# Altium schematic symbol library SYNCBOX_V3I1_1.SCHLIB: 99 symbols (part 1 of 3)
Pins are listed as number, name and electrical type; pins without a type are passive.

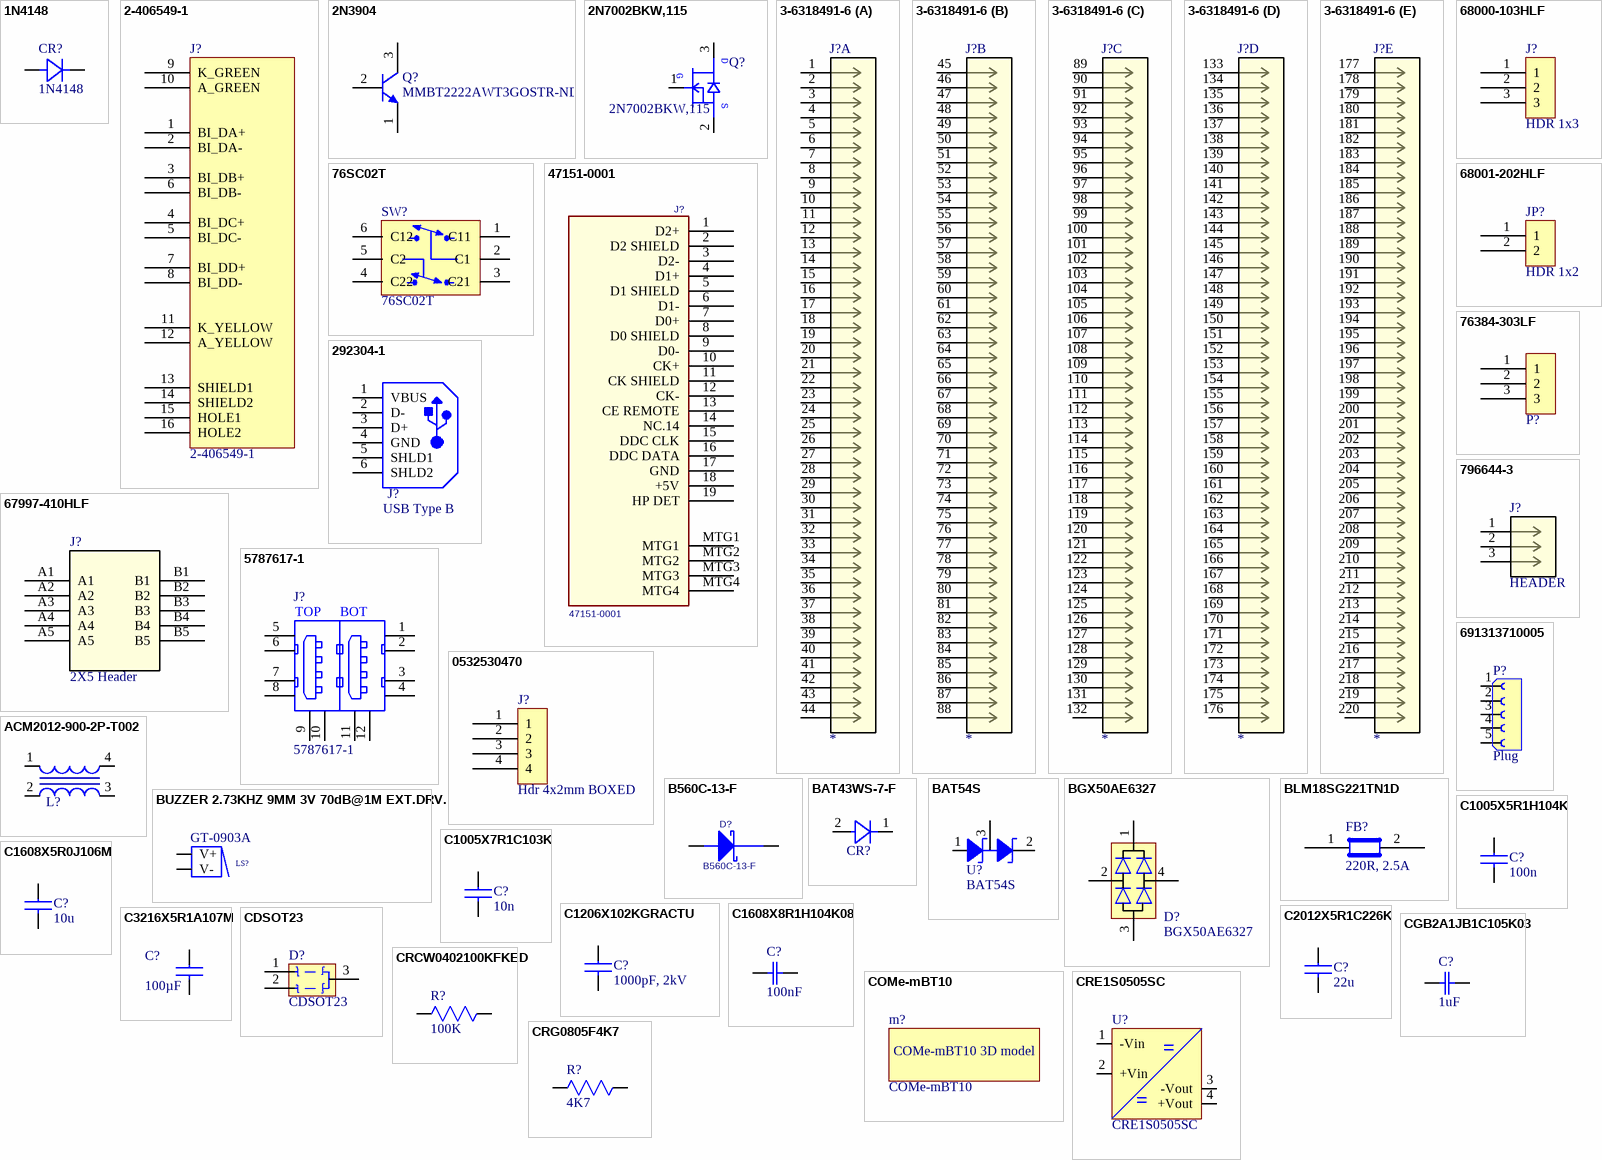
[diagram p0: symbols 1N4148 to CRG0805F4K7]

## 1N4148
designator CR?
DIODE GEN PURP 100V 150MA SOD123; Manufacturer 1: Micro Commercial Co; Manufacturer Part Number 1: 1N4148W-TP; Vendor: Nexperia; Type: DEV; C: Copyright (C) 2015 Accelerated Designs. All rights reserved; .Checked PCB: CHK; Diode Type: Standard; Speed: Small Signal =< 200mA (Io), Any Speed; Capacitance @ Vr, F: 2pF @ 0V, 1MHz; Manufacturer_Part_Number: 1N4148; Copyright: Copyright (C) 2016 Accelerated Designs. All rights reserved; RefDes: RefDes; Value: Value; .Checked SCH: CHK; Supplier 1: Digi-Key; Supplier Part Number 1: 1N4148WTPMSCT-ND; RoHS: RoHS Compliant; Description 1: DIODE GEN PURP 100V 150MA SOD123; Category: Discrete Semiconductor Products; Stock 1: 1984430; Pricing 1: 1=0.14, 10=0.131, 100=0.0856, 500=0.04186, 1000=0.02854 (USD); Packaging: Cut Tape (CT); Part Status: Active; Current - Average Rectified (Io): 150mA; Mounting Type: Surface Mount; Package / Case: SOD-123; Supplier Device Package: SOD-123; Operating Temperature - Junction: -65°C ~ 150°C; Base Part Number: 1N4148W; ComponentLink1URL: http://www.mccsemi.com/up_pdf/1N4148W(SOD123).pdf; ComponentLink1Description: http://www.mccsemi.com/up_pdf/1N4148W(SOD123).pdf
footprint SOD123-DIOD
pins: 1, 2

## 2-406549-1
designator J?
CONN MOD JACK 8POS R/A G-Y PCB; Manufacturer: Tyco; .Checked PCB: CHK; Number of Positions: 8p8c (RJ45, Ethernet); Number of Ports: 1; Shielding: Shielded, EMI Finger; Ratings: Cat5; LED Color: Yellow - Green; Tab Direction: Up; .Checked SCH: CHK; Category: Connectors, Interconnects; Connector Type: Jack; Manufacturer Part Number: 2-406549-1; Price 1k [$]: 1.73278; Supplier: Digikey; Supplier Part Number: A97715-ND; Value: 2-406549-1; Supplier 1: Digi-Key; Supplier Part Number 1: A97715-ND; RoHS: RoHS Compliant; Stock 1: 9021; Pricing 1: 1=3.42 (USD); Number of Positions/Contacts: 8p8c (RJ45, Ethernet); Number of Rows: 1; Mounting Type: Through Hole; Orientation: 90° Angle (Right); Termination: Solder; Features: Board Lock; Packaging: Tray; Housing Material: Thermoplastic; Contact Material: Phosphor Bronze; Contact Finish: Gold; Operating Temperature: -40°C ~ 85°C; ComponentLink1URL: http://documents.tycoelectronics.com/commerce/DocumentDelivery/DDEController?Action=srchrtrv&DocNm=406549&DocType=CD&DocLang=EN; ComponentLink1Description: http://documents.tycoelectronics.com/commerce/DocumentDelivery/DDEController?Action=srchrtrv&DocNm=406549&DocType=CD&DocLang=EN
footprint RJ45LED
pins: 1 BI_DA+, 2 BI_DA-, 3 BI_DB+, 4 BI_DC+, 5 BI_DC-, 6 BI_DB-, 7 BI_DD+, 8 BI_DD-, 9 K_GREEN, 10 A_GREEN, 11 K_YELLOW, 12 A_YELLOW, 13 SHIELD1, 14 SHIELD2, 15 HOLE1, 16 HOLE2

## 2N3904
designator Q?, comment MMBT2222AWT3GOSTR-ND
NPN General Purpose Amplifier; Manufacturer 1: ON Semiconductor; .Checked PCB: CHK; Description 1: TRANS NPN 40V 0.6A SC70-3; Vce Saturation (Max) @ Ib, Ic: 1V @ 50mA, 500mA; DC Current Gain (hFE) (Min) @ Ic, Vce: 100 @ 150mA, 10V; Frequency - Transition: 300MHz; Published: 8-Jun-2000; LatestRevisionDate: 15-Jan-2003; LatestRevisionNote: PCB Footprint 'BCY-W3/D4.7' replaced; DatasheetVersion: 1997; PackageVersion: Sep-1998; PackageReference: TO-92A; Publisher: Altium Limited; ComponentLink1Description: Manufacturer Link; ComponentLink1URL: http://www.fairchildsemi.com/; ComponentLink2Description: Datasheet; ComponentLink2URL: http://www.fairchildsemi.com/ds/2N%2F2N3904.pdf; PackageDescription: TO, Flat Index; 3 In-Line, Axial Leads; Body Dia. 4.5mm; Leads 0.51 x 0.48 mm (max); .Checked SCH: CHK; Supplier 1: Digi-Key; Supplier Part Number 1: MMBT2222AWT3GOSCT-ND; Manufacturer Part Number 1: MMBT2222AWT3G; RoHS: RoHS Compliant; Category: Discrete Semiconductor Products; Stock 1: 19990; Pricing 1: 1=0.14, 10=0.126, 100=0.0688, 500=0.04236, 1000=0.02889 (USD); Packaging: Cut Tape (CT); Part Status: Active; Transistor Type: NPN; Current - Collector Cutoff (Max): -; Operating Temperature: -55°C ~ 150°C (TJ); Mounting Type: Surface Mount; Package / Case: SC-70, SOT-323; Supplier Device Package: SC-70-3 (SOT323); Base Part Number: MMBT2222A; ComponentLink3URL: http://www.onsemi.com/pub/Collateral/MMBT2222AWT1-D.PDF; ComponentLink3Description: http://www.onsemi.com/pub/Collateral/MMBT2222AWT1-D.PDF
footprint SC70_SOT323
pins: 1 E, 2 B, 3 C

## 2N7002BKW,115
designator Q?
MOSFET N-CH 60V 310MA SOT323; Manufacturer: NXP Semiconductors; FET Type: MOSFET N-Channel, Metal Oxide; FET Feature: Logic Level Gate; Rds On (Max) @ Id, Vgs: 1.6 Ohm @ 500mA, 10V; Vgs(th) (Max) @ Id: 2.1V @ 250µA; Gate Charge (Qg) @ Vgs: 0.6nC @ 4.5V; Input Capacitance (Ciss) @ Vds: 50pF @ 10V; Power - Max: 275mW; .Checked PCB: CHK; Supplier 1: Digi-Key; Supplier Part Number 1: 568-5980-1-ND; Manufacturer Part Number: 2N7002BKW,115; RoHS: RoHS Compliant; Category: Discrete Semiconductor Products; Stock 1: 15666; Pricing 1: 1=0.39, 10=0.354, 25=0.2548, 100=0.1983, 250=0.12456, 500=0.10616, 1000=0.07233 (USD); Drain to Source Voltage (Vdss): 60V; Current - Continuous Drain (Id) @ 25° C: 310mA; Mounting Type: Surface Mount; Package / Case: SC-70, SOT-323; Supplier Device Package: SC-70; Packaging: Cut Tape (CT); ComponentLink1URL: http://www.nxp.com/documents/data_sheet/2N7002BKW.pdf; ComponentLink1Description: http://www.nxp.com/documents/data_sheet/2N7002BKW.pdf; .Checked SCH: CHK
footprint SC70_SOT323
pins: 1 GATE, 2 SOURCE, 3 DRAIN
text: D; G; S

## 3-6318491-6
designator J?
CONN PLUG 220POS 0.5MM DUAL SMT; Manufacturer_Part_Number: 3-6318491-6; Manufacturer 1: TE Connectivity AMP Connectors; Vendor: TE Connectivity; Built_By: EMA_UL_Team; ROWS/CONFIG: 2; PITCH(MM): 0.5; POSITIONS: 220; C: Copyright (C) 2015 Accelerated Designs. All rights reserved; .Checked PCB: CHK; Connector Type: Plug, Outer Shroud Contacts; Pitch: 0.020" (0.50mm); Mated Stacking Heights: 5mm, 8mm; Copyright: Copyright (C) 2016 Accelerated Designs. All rights reserved; TE_Part_Number: 3-6318491-6; PRODUCT: Connector; Type: DEV; RefDes: RefDes; Value: Value; .Checked SCH: CHK; Supplier 1: Digi-Key; Supplier Part Number 1: A107335-ND; Manufacturer Part Number 1: 3-6318491-6; RoHS: RoHS Compliant; Description 1: CONN PLUG 220POS 0.5MM DUAL SMT; Category: Connectors, Interconnects; Stock 1: 1904; Pricing 1: 1=16.15, 10=14.996, 25=13.4576, 50=13.073, 100=11.535, 250=10.766, 500=10.5353, 1000=9.997 (USD); Packaging: Tray; Part Status: Active; Number of Positions: 220; Mounting Type: Surface Mount; Features: Board Guide, Ground Plate; Contact Finish: Gold; Contact Finish Thickness: 8.00µin (0.203µm); Height Above Board: 0.293" (7.45mm); ComponentLink1URL: http://www.te.com/commerce/DocumentDelivery/DDEController?Action=srchrtrv&DocNm=6318491&DocType=Customer+Drawing&DocLang=English; ComponentLink1Description: http://www.te.com/commerce/DocumentDelivery/DDEController?Action=srchrtrv&DocNm=6318491&DocType=Customer+Drawing&DocLang=English
footprint CONN220_3-631849
part A pins: 1, 2, 3, 4, 5, 6, 7, 8, 9, 10, 11, 12, 13, 14, 15, 16, 17, 18, 19, 20, 21, 22, 23, 24, 25, 26, 27, 28, 29, 30, 31, 32, 33, 34, 35, 36, 37, 38, 39, 40, 41, 42, 43, 44
part B pins: 45, 46, 47, 48, 49, 50, 51, 52, 53, 54, 55, 56, 57, 58, 59, 60, 61, 62, 63, 64, 65, 66, 67, 68, 69, 70, 71, 72, 73, 74, 75, 76, 77, 78, 79, 80, 81, 82, 83, 84, 85, 86, 87, 88
part C pins: 89, 90, 91, 92, 93, 94, 95, 96, 97, 98, 99, 100, 101, 102, 103, 104, 105, 106, 107, 108, 109, 110, 111, 112, 113, 114, 115, 116, 117, 118, 119, 120, 121, 122, 123, 124, 125, 126, 127, 128, 129, 130, 131, 132
part D pins: 133, 134, 135, 136, 137, 138, 139, 140, 141, 142, 143, 144, 145, 146, 147, 148, 149, 150, 151, 152, 153, 154, 155, 156, 157, 158, 159, 160, 161, 162, 163, 164, 165, 166, 167, 168, 169, 170, 171, 172, 173, 174, 175, 176
part E pins: 177, 178, 179, 180, 181, 182, 183, 184, 185, 186, 187, 188, 189, 190, 191, 192, 193, 194, 195, 196, 197, 198, 199, 200, 201, 202, 203, 204, 205, 206, 207, 208, 209, 210, 211, 212, 213, 214, 215, 216, 217, 218, 219, 220

## 76SC02T
designator SW?
SWITCH ROCKER DIP SPDT 150MA 30V; Manufacturer 1: Grayhill Inc.; Voltage Rating: 30VDC; Actuator Level: Raised; Pitch: 0.100" (2.54mm), Full; Washable: No; Body Material: Thermoplastic; Mechanical Life: 2,000 Cycles; .Checked PCB: CHK; Manufacturer Part Number 1: 76SC02T; RoHS: RoHS Compliant; Stock 1: 65; Pricing 1: 1=4.47, 10=4.279, 25=4.0844, 50=3.89, 100=3.501, 250=3.112, 500=3.01476, 1000=2.723 (USD); Packaging: Tube; Part Status: Active; Circuit: SPDT; Current Rating: 150mA; Actuator Type: Rocker; Contact Material: Copper Alloy; Contact Finish: Gold; Height Above Board: 0.315" (8.00mm); Mounting Type: Through Hole; Termination Style: PC Pin; Features: -; Operating Temperature: -40°C ~ 85°C; Length: 0.380" (9.65mm); Electrical Life: 2,000 Cycles; ComponentLink1URL: http://www.grayhill.com/assets/1/7/DIP_Series_76_and_78_SPDT.pdf; ComponentLink1Description: http://www.grayhill.com/assets/1/7/DIP_Series_76_and_78_SPDT.pdf; Supplier 1: Digi-Key; Supplier Part Number 1: GH7717-ND; Description 1: SWITCH ROCKER DIP SPDT 150MA 30V; Category: Switches; .Checked SCH: CHK
footprint DIPSW-2x2 (2 WAY DIP SW 2 CRCTS)
pins: 1 C11, 2 C1, 3 C21, 4 C22, 5 C2, 6 C12

## 47151-0001
designator J?
CONN RCPT 19POS HDMI RT ANG SMD; Manufacturer: Molex Connector Corporation; .Checked PCB: CHK; Number of Positions: 19; Pitch: 0.50mm (.020"); Gender: Receptacle; .Checked SCH: CHK; Category: Connectors, Interconnects; Connector Type: HDMI; Family: USB, IEEE-1394 (Firewire), DVI, HDMI; Manufacturer Part Number: 47151-0001; Operating Temperature: -20°C to +85°C; Price 1k [$]: 1.74610; Supplier: Digikey; Supplier Part Number: WM19086CT-ND; Value: 47151-0001; Supplier 1: Digi-Key; Supplier Part Number 1: WM19086CT-ND; RoHS: RoHS Compliant; Stock 1: 2756; Pricing 1: 1=3.1, 10=2.57, 50=2.1456, 100=1.9034 (USD); Number of Contacts: 19; Specifications: -; Mounting Type: Surface Mount, Right Angle, Horizontal; Features: Detent Lock; Packaging: Cut Tape (CT); Ingress Protection: -; ComponentLink1URL: http://www.molex.com/pdm_docs/sd/471510001_sd.pdf; ComponentLink1Description: http://www.molex.com/pdm_docs/sd/471510001_sd.pdf
footprint HDMI
pins: 1 D2+, 2 D2 SHIELD, 3 D2-, 4 D1+, 5 D1 SHIELD, 6 D1-, 7 D0+, 8 D0 SHIELD, 9 D0-, 10 CK+, 11 CK SHIELD, 12 CK-, 13 CE REMOTE, 14 NC.14, 15 DDC CLK, 16 DDC DATA, 17 GND, 18 +5V, 19 HP DET, MTG1, MTG2, MTG3, MTG4

## 67997-410HLF
designator J?, comment 2X5 Header
CONN HEADER 10POS .100 STR TIN; Manufacturer_Part_Number: 67997-410HLF; Vendor: Amphenol FCI; Built_By: EMA_UL_Team; C: Copyright (C) 2015 Accelerated Designs. All rights reserved; Pitch - Mating: 0.100" (2.54mm); Number of Positions: 10; Number of Positions Loaded: All; Style: Board to Board; Shrouding: Unshrouded; Contact Length - Mating: 0.230" (5.84mm); Contact Length - Post: 0.120" (3.05mm); Overall Contact Length: 0.450" (11.43mm); Material Flammability Rating: UL94 V-0; .Checked PCB: CHK; RefDes: RefDes; Type: DEV; Value: Value; Manufacturer 1: Amphenol FCI; Manufacturer Part Number 1: 67997-410HLF; RoHS: RoHS Compliant; Stock 1: 36400; Pricing 1: 1=0.27, 10=0.259, 100=0.1811, 500=0.1552, 1000=0.12933, 5000=0.11085, 10000=0.10346 (USD); Packaging: Bulk; Part Status: Active; Connector Type: Header; Contact Type: Male Pin; Number of Rows: 2; Row Spacing - Mating: 0.100" (2.54mm); Mounting Type: Through Hole; Termination: Solder; Fastening Type: Push-Pull; Insulation Height: 0.100" (2.54mm); Contact Shape: Square; Contact Finish - Mating: Tin; Contact Finish Thickness - Mating: 100.0µin (2.54µm); Contact Finish - Post: Tin; Contact Material: Phosphor Bronze; Insulation Material: -; Features: -; Operating Temperature: -; Ingress Protection: -; Insulation Color: Black; Current Rating: -; Voltage Rating: -; Mated Stacking Heights: -; Contact Finish Thickness - Post: -; Applications: -; ComponentLink1URL: https://cdn.amphenol-icc.com/media/wysiwyg/files/drawing/67996.pdf; ComponentLink1Description: https://cdn.amphenol-icc.com/media/wysiwyg/files/drawing/67996.pdf; Supplier 1: Digi-Key; Supplier Part Number 1: 609-3243-ND; Description 1: CONN HEADER 10POS .100 STR TIN; Category: Connectors, Interconnects; .Checked SCH: CHK
footprint 10 Pins; pin to pad A1>1 A2>3 A3>5 A4>7 A5>9 B1>2 B2>4 B3>6 B4>8 B5>10
pins: A1, A2, A3, A4, A5, B1, B2, B3, B4, B5

## 68000-103HLF
designator J?, comment HDR 1x3
BERGSTIK II .100" SR STRAIGHT; Manufacturer: FCI; Manufacturer Part Number: 68000-103HLF; Connector Type: Header, Unshrouded; Number of Positions: 3; Number of Positions Loaded: All; Pitch: 0.100" (2.54mm); .Creator: MM; .Checked PCB: CHK; Supplier 1: Digi-Key; RoHS: RoHS Compliant; Category: Connectors, Interconnects; Stock 1: 37214; Pricing 1: 1=0.15, 10=0.145, 25=0.108, 50=0.0924 (USD); Packaging: Bulk; Contact Type: Male Pin; Number of Rows: 1; Row Spacing: -; Contact Mating Length: 0.230" (5.84mm); Mounting Type: Through Hole; Termination: Solder; Fastening Type: -; Features: -; Contact Finish: Gold or Gold, GXT™; Contact Finish Thickness: 30µin (0.76µm); Color: Black; ComponentLink1URL: http://portal.fciconnect.com/Comergent//fci/drawing/68000.pdf; ComponentLink1Description: http://portal.fciconnect.com/Comergent//fci/drawing/68000.pdf; Supplier Part Number 1: 609-3461-ND; .Checked SCH: CHK
footprint Hdr_1x3_2.54mm
pins: 1, 2, 3

## 68001-202HLF
designator JP?, comment HDR 1x2
BERGSTIK II .100" SR STRAIGHT; Manufacturer: FCI; Manufacturer Part Number: 68001-202HLF; Connector Type: Header, Unshrouded; Number of Positions: 2; Number of Positions Loaded: All; Pitch: 0.100" (2.54mm); .Checked PCB: CHK; Supplier 1: Digi-Key; Supplier Part Number 1: 609-3469-ND; RoHS: RoHS Compliant; Category: Connectors, Interconnects; Stock 1: 13680; Pricing 1: 1=0.45, 10=0.265, 100=0.1172, 250=0.09828, 500=0.09072, 1000=0.07938, 5000=0.05065 (USD); Contact Type: Male Pin; Number of Rows: 1; Row Spacing: -; Contact Mating Length: 0.230" (5.84mm); Mounting Type: Through Hole; Termination: Solder; Fastening Type: -; Features: -; Contact Finish: Gold; Contact Finish Thickness: 15µin (0.38µm); Color: Black; Packaging: Bulk; ComponentLink1URL: http://portal.fciconnect.com/res/en/pdffiles/doc_search/68000.pdf; ComponentLink1Description: http://portal.fciconnect.com/res/en/pdffiles/doc_search/68000.pdf; .Checked SCH: CHK
footprint HDR_1x2_2.54MM
pins: 1, 2

## 76384-303LF
designator P?  (value not drawn)
CONN HEADER 3POS .100" STR GOLD; Manufacturer: FCI; Connector Type: Header, Shrouded; Number of Positions: 3; Number of Positions Loaded: All; Pitch: 0.100" (2.54mm); .Creator: MM; .Checked PCB: CHK; Supplier 1: Digi-Key; Manufacturer Part Number: 76384-303LF; RoHS: RoHS Compliant; Category: Connectors, Interconnects; Stock 1: 1441; Pricing 1: 1=0.59, 10=0.556, 25=0.5, 50=0.4444, 100=0.426, 250=0.38892, 500=0.3704, 1000=0.30558, 2500=0.2778 (USD); Packaging: Tube; Contact Type: Male Pin; Number of Rows: 1; Row Spacing: -; Contact Mating Length: 0.197" (5.00mm); Mounting Type: Through Hole; Termination: Solder; Fastening Type: Friction Lock; Features: -; Contact Finish: Gold, GXT™; Contact Finish Thickness: 30µin (0.76µm); Color: Black; ComponentLink1URL: http://portal.fciconnect.com/Comergent//fci/drawing/76384.pdf; ComponentLink1Description: http://portal.fciconnect.com/Comergent//fci/drawing/76384.pdf; Supplier Part Number 1: 609-1305-ND; .Checked SCH: CHK
footprint HDR_1x3_2.54MM_SHDR_V2
pins: 1, 2, 3

## 292304-1
designator J?, comment USB Type B
1 Port Right Angle Through Hole Mount Female Type B USB Connector, 4 Position, -55 to 85 degC, RoHS, Tray; Gender: Receptacle; USB Standard: USB 2.0; No. of Positions: 4; SVHC: To Be Advised; .Checked PCB: CHK; PackageReference: THD; PackageDescription: THD, 4-Leads, Body 15.71x12.04mm, Pitch 2.5mm; Supplier 1: Digi-Key; Supplier Part Number 1: A31725-ND; Connector Mounting: Through Hole; Orientation: Right Angle; USB Connector Type: USB Type B; Series: B; Contact Plating: Gold; Contact Material: Copper Alloy; Mounting Technology: Through Hole; ComponentLink1Description: Manufacturer URL; ComponentLink1URL: http://www.te.com; ComponentLink2Description: Datasheet; ComponentLink2URL: https://datasheet.ciiva.com/851/eng-cd-292304-d2-851088.pdf; .Checked SCH: CHK
footprint USB-B RECEPTACLE
pins: 1 VBUS, 2 D-, 3 D+, 4 GND, 5 SHLD1, 6 SHLD2

## 796644-3
designator J?, comment HEADER
TERM BLOCK HDR 3POS 90DEG 5MM; Manufacturer_Part_Number: 796644-3; Manufacturer 1: TE Connectivity AMP Connectors; Vendor: TE Connectivity; Built_By: EMA_UL_Team; C: Copyright (C) 2015 Accelerated Designs. All rights reserved; Number of Positions: 3; Number of Levels: 1; Pitch: 0.197" (5.00mm); Header Orientation: 90°, Right Angle; Material Flammability Rating: UL94 V-0; Contact Tail Length: 0.138" (3.50mm); .Checked PCB: CHK; RefDes: RefDes; Type: DEV; Value: Value; Manufacturer Part Number 1: 796644-3; RoHS: RoHS Compliant; Stock 1: 93322; Pricing 1: 1=1.05, 10=0.734, 25=0.6848, 50=0.6218, 100=0.619, 250=0.52268, 500=0.49516, 1000=0.44014, 5000=0.35762 (USD); Packaging: Bulk; Part Status: Active; Positions Per Level: 3; Plug Wire Entry: -; Termination Style: Solder; Mounting Type: Through Hole; Current - IEC: -; Wire Gauge or Range - AWG: -; Wire Gauge or Range - mm²: -; Color: Green; Operating Temperature: -40°C ~ 110°C; Contact Mating Finish: Tin; Features: -; Ingress Protection: -; Screw Size: -; Torque - Screw: -; Wire Strip Length: -; Contact Material: Copper Alloy; Housing Material: Polyamide (PA66), Nylon 6/6; Insulation Height: 0.329" (8.36mm); ComponentLink1URL: http://www.te.com/commerce/DocumentDelivery/DDEController?Action=srchrtrv&DocNm=796644&DocType=Customer+Drawing&DocLang=English; ComponentLink1Description: http://www.te.com/commerce/DocumentDelivery/DDEController?Action=srchrtrv&DocNm=796644&DocType=Customer+Drawing&DocLang=English; Supplier 1: Digi-Key; Supplier Part Number 1: A98249-ND; Description 1: TERM BLOCK HDR 3POS 90DEG 5MM; Category: Connectors, Interconnects; .Checked SCH: CHK
footprint TerminalBlock3P508 (3 Pin, 5.08 mm pitch Terminal Block)
pins: 1, 2, 3

## 5787617-1
designator J?
CONN RCPT R/A 4OVER4POS GOLD PCB; Manufacturer: TE Connectivity; .Checked PCB: CHK; Connector Type: USB - A, Stacked; Number of Contacts: 8; Gender: Receptacle; Specifications: USB 2.0; .Checked SCH: CHK; Category: Connectors, Interconnects; Family: USB, IEEE-1394 (Firewire), DVI, HDMI; Manufacturer Part Number: 5787617-1; Price 1k [$]: 1.68753; Supplier: Digikey; Supplier Part Number: A31728-ND; Value: 5787617-1; Supplier 1: Digi-Key; Supplier Part Number 1: A31728-ND; RoHS: RoHS Compliant; Stock 1: 5401; Pricing 1: 1=3.33, 10=3.197, 25=2.9308, 50=2.7978, 100=2.6645, 250=2.33144, 500=2.26484, 1000=1.93178, 2500=1.79855 (USD); Mounting Type: Through Hole, Right Angle, Horizontal; Features: Board Lock; Packaging: Tray; Ingress Protection: -; ComponentLink1URL: http://documents.tycoelectronics.com/commerce/DocumentDelivery/DDEController?Action=srchrtrv&DocNm=5787617&DocType=CD&DocLang=EN; ComponentLink1Description: http://documents.tycoelectronics.com/commerce/DocumentDelivery/DDEController?Action=srchrtrv&DocNm=5787617&DocType=CD&DocLang=EN
footprint USB-2A
pins: 1 VBUS, 2 D-, 3 D+, 4 GND, 5 VBUS2, 6 D2-, 7 D2+, 8 GND, 9 SHIELD, 10 SHIELD, 11 SHIELD, 12 SHIELD
text: TOP; BOT

## 0532530470
designator J?, comment Hdr 4x2mm BOXED
CONN HEADER 4POS 2MM VERT TIN; Manufacturer: Molex Inc; Manufacturer Part Number: 0532530470; Connector Type: Header, Shrouded; Number of Positions: 4; Number of Positions Loaded: All; Pitch: 0.079" (2.00mm); .Creator: MM; .Checked PCB: CHK; Supplier 1: Digi-Key; RoHS: RoHS Compliant; Category: Connectors, Interconnects; Stock 1: 5160; Pricing 1: 1=0.23, 10=0.211, 50=0.1576, 100=0.1464, 250=0.12948, 500=0.12386, 1000=0.10134, 2500=0.0929, 5000=0.09008 (USD); Packaging: Tray; Contact Type: Male Pin; Number of Rows: 1; Row Spacing: -; Contact Mating Length: 0.130" (3.30mm); Mounting Type: Through Hole; Termination: Press-Fit; Fastening Type: -; Features: -; Contact Finish: Tin; Contact Finish Thickness: -; Color: -; ComponentLink1URL: http://www.molex.com/pdm_docs/sd/532530270_sd.pdf; ComponentLink1Description: http://www.molex.com/pdm_docs/sd/532530270_sd.pdf; Supplier Part Number 1: WM19006-ND; .Checked SCH: CHK
footprint HDR_1x4_2MM_SHDR
pins: 1, 2, 3, 4

## 691313710005
designator P?, comment Plug
TERM BLOCK HDR 5POS 90DEG 5MM; Manufacturer 1: Wurth Electronics Inc.; Manufacturer Part Number 1: 691313710005; Number of Positions: 5; Number of Levels: 1; Pitch: 0.197" (5.00mm); Header Orientation: 90°, Right Angle; Material Flammability Rating: UL94 V-0; Contact Tail Length: 0.157" (4.00mm); .Checked SCH: CHK; RoHS: RoHS Compliant; Stock 1: 141; Pricing 1: 1=1.25, 10=1.1, 50=0.95, 100=0.85, 330=0.8, 660=0.75 (USD); Packaging: Bulk; Part Status: Active; Type: Header, Male Pins, Shrouded (4 Side); Positions Per Level: 5; Plug Wire Entry: -; Termination Style: Solder; Mounting Type: Through Hole; Current - IEC: -; Wire Gauge or Range - AWG: -; Wire Gauge or Range - mm²: -; Color: Green; Operating Temperature: -40°C ~ 105°C; Contact Mating Finish: Tin; Features: -; Ingress Protection: -; Screw Size: -; Torque - Screw: -; Wire Strip Length: -; Contact Material: Brass; Housing Material: Polybutylene Terephthalate (PBT); Insulation Height: 0.335" (8.51mm); ComponentLink1URL: http://katalog.we-online.de/em/datasheet/6913137100xx.pdf; ComponentLink1Description: http://katalog.we-online.de/em/datasheet/6913137100xx.pdf; Supplier 1: Digi-Key; Supplier Part Number 1: 732-2802-ND; Description 1: TERM BLOCK HDR 5POS 90DEG 5MM; Category: Connectors, Interconnects; .Checked PCB: CHK
footprint 691313710005
pins: 1, 2, 3, 4, 5

## ACM2012-900-2P-T002
designator L?  (value not drawn)
CHOKE COMM MODE 90 OHM .4A SMD; Manufacturer: TDK Corporation; Filter Type: Data, Signal Line; Number of Lines: 2; Current: 400mA; DC Resistance (DCR): 190 mOhm Max; Impedance: 90 Ohm; Resistance (Ohms): 8.2K; Power (Watts): 0.063W, 1/16W; Temperature Coefficient: ±100ppm/°C; Tolerance: ±1%; .Checked PCB: CHK; Supplier 1: Digi-Key; Supplier Part Number 1: 445-2207-1-ND; Manufacturer Part Number: ACM2012-900-2P-T002; RoHS: RoHS Compliant; Category: Filters; Stock 1: 175768; Pricing 1: 1=0.48, 10=0.448, 50=0.42, 100=0.364, 500=0.308, 1000=0.252 (USD); Inductance: -; Mounting Type: Surface Mount; Size / Dimension: 0.079" L x 0.047" W (2.00mm x 1.20mm); Height (Max): 0.051" (1.30mm); Package / Case: 0805 (2012 Metric), 4 Lead; Operating Temperature: -25°C ~ 85°C; Packaging: Cut Tape (CT); ComponentLink1URL: http://www.tdk.co.jp/tefe02/e9719_acm2012.pdf; ComponentLink1Description: http://www.tdk.co.jp/tefe02/e9719_acm2012.pdf; Composition: Thick Film; Features: -; Height: 0.016" (0.40mm); Number of Terminations: 2; ComponentLink2URL: http://www.yageo.com/documents/recent/PYu-RC0402_51_RoHS_L_6.pdf; ComponentLink2Description: http://www.yageo.com/documents/recent/PYu-RC0402_51_RoHS_L_6.pdf; .Checked SCH: CHK
footprint ACM2012
pins: 1, 2, 3, 4

## B560C-13-F
designator D?
DIODE SCHOTTKY 60V 5A SMC; Manufacturer: Diodes Inc; .Checked PCB: CHK; Voltage - Forward (Vf) (Max) @ If: 700mV @ 5A; Speed: Fast Recovery =< 500ns, > 200mA (Io); Current - Reverse Leakage @ Vr: 500µA @ 60V; Capacitance @ Vr, F: 300pF @ 4V, 1MHz; .Checked SCH: CHK; Category: Discrete Semiconductor Products; Supplier Part Number: B560C-FDICT-ND; Manufacturer Part Number: B560C-13-F; Price 1k [$]: 0.42900; Value: B560C-13-F; Package / Case: DO-214AB, SMC; Supplier: Digikey; Family: Diodes, Rectifiers - Single; Voltage - DC Reverse (Vr) (Max): 60V; Current - Average Rectified (Io): 5A; Diode Type: Schottky; Supplier 1: Digi-Key; Supplier Part Number 1: B560C-FDICT-ND; RoHS: RoHS Compliant; Stock 1: 37770; Pricing 1: 1=0.99, 10=0.884, 100=0.702, 250=0.611, 500=0.546, 1000=0.429 (USD); Reverse Recovery Time (trr): -; Mounting Type: Surface Mount; Supplier Device Package: SMC; Packaging: Cut Tape (CT); ComponentLink1URL: http://www.diodes.com/datasheets/ds13012.pdf; ComponentLink1Description: http://www.diodes.com/datasheets/ds13012.pdf
footprint SMC
pins: 1 cathode, 2 ANODE

## BAT43WS-7-F
designator CR?  (value not drawn)
DIODE SCHOTTKY 30V 200MA SOT23-3; Manufacturer 1: ON Semiconductor; Manufacturer Part Number 1: BAT54; Vendor: Diodes Inc; Built_By: EMA_UL_Team; Type: DEV; C: Copyright (C) 2015 Accelerated Designs. All rights reserved; Speed: Small Signal =< 200mA (Io), Any Speed; Capacitance @ Vr, F: 10pF @ 1V, 1MHz; .Checked PCB: CHK; Manufacturer_Part_Number: BAT43WS-7-F; RefDes: RefDes; Value: Value; RoHS: RoHS Compliant; Stock 1: 2177; Pricing 1: 1=0.2, 10=0.18, 100=0.0982, 500=0.06042, 1000=0.0412 (USD); Packaging: Cut Tape (CT); Part Status: Last Time Buy; Diode Type: Schottky; Current - Average Rectified (Io): 200mA; Mounting Type: Surface Mount; Package / Case: TO-236-3, SC-59, SOT-23-3; Supplier Device Package: SOT-23-3 (TO-236); Operating Temperature - Junction: -55°C ~ 150°C; Base Part Number: BAT54; ComponentLink1URL: https://www.fairchildsemi.com/datasheets/BA/BAT54.pdf; ComponentLink1Description: https://www.fairchildsemi.com/datasheets/BA/BAT54.pdf; Supplier 1: Digi-Key; Supplier Part Number 1: BAT54FSCT-ND; Description 1: DIODE SCHOTTKY 30V 200MA SOT23-3; Category: Discrete Semiconductor Products; .Checked SCH: CHK
footprint SOD323
pins: 1, 2

## BAT54S
designator U?
DIODE ARRAY SCHOTTKY 30V SOT23; Manufacturer 1: Nexperia USA Inc.; Manufacturer Part Number 1: BAT54S,235; Vendor: STMicroelectronics; Built_By: EMA_UL_Team; C: Copyright (C) 2015 Accelerated Designs. All rights reserved; Diode Configuration: 1 Pair Series Connection; Current - Average Rectified (Io) (per Diode): 200mA (DC); Speed: Small Signal =< 200mA (Io), Any Speed; .Checked PCB: CHK; Manufacturer_Part_Number: BAT54S; RefDes: RefDes; Type: DEV; Value: Value; RoHS: RoHS Compliant; Stock 1: 7609; Pricing 1: 1=0.23, 10=0.186, 100=0.0986, 500=0.0649, 1000=0.04413 (USD); Packaging: Digi-Reel®; Part Status: Active; Diode Type: Schottky; Operating Temperature - Junction: 150°C (Max); Mounting Type: Surface Mount; Package / Case: TO-236-3, SC-59, SOT-23-3; Supplier Device Package: TO-236AB (SOT23); ComponentLink1URL: https://assets.nexperia.com/documents/data-sheet/BAT54_SER.pdf; ComponentLink1Description: https://assets.nexperia.com/documents/data-sheet/BAT54_SER.pdf; Supplier 1: Digi-Key; Supplier Part Number 1: 1727-1868-6-ND; Description 1: DIODE ARRAY SCHOTTKY 30V SOT23; Category: Discrete Semiconductor Products; .Checked SCH: CHK
footprint SOT-23
footprint SOT-23-L
footprint SOT-23-M
pins: 1, 2, 3

## BGX50AE6327
designator D?
DIODE SWITCHING 50V SOT-143; Manufacturer: Infineon Technologies; .Checked PCB: CHK; Current - DC Forward (If): 140mA; Diode Type: Single Phase; Speed: Small Signal =< 200mA (Io), Any Speed; Reverse Recovery Time (trr): 6ns; .Checked SCH: CHK; Category: Discrete Semiconductor Products; Family: Bridge Rectifiers; Manufacturer Part Number: BGX50AE6327; Package / Case: TO-253-4, TO-253AA; Price 1k [$]: 0.10013; Supplier: Digikey; Supplier Part Number: BGX50AINCT-ND; Value: BGX50AE6327; Supplier 1: Digi-Key; Supplier Part Number 1: BGX50AINCT-ND; RoHS: RoHS Compliant; Stock 1: 438; Pricing 1: 1=0.47, 10=0.334, 100=0.2225, 500=0.12906, 1000=0.10013 (USD); Voltage - Peak Reverse (Max): 50V; Mounting Type: Surface Mount; Packaging: Cut Tape (CT); Supplier Device Package: PG-SOT143-4; ComponentLink1URL: http://www.infineon.com/dgdl/bgx50aseries.pdf?folderId=db3a30431400ef6801141cc1c4cd04e8&fileId=db3a30431400ef6801141cc423c404e9; ComponentLink1Description: http://www.infineon.com/dgdl/bgx50aseries.pdf?folderId=db3a30431400ef6801141cc1c4cd04e8&fileId=db3a30431400ef6801141cc423c404e9
footprint SOT143
pins: 1, 2, 3, 4

## BLM18SG221TN1D
designator FB?, comment 220R, 2.5A
FERRITE CHIP 220 OHM 2500MA 0603; Manufacturer: Murata Electronics North America; Manufacturer Part Number: BLM18SG221TN1D; Impedance @ Frequency: 220 Ohm @ 100MHz; DC Resistance (DCR): 40 mOhm Max; Filter Type: Differential Mode - Single; Number of Lines: 1; .Checked PCB: CHK; Supplier 1: Digi-Key; Supplier Part Number 1: 490-5225-1-ND; RoHS: RoHS Compliant; Category: Filters; Stock 1: 54640; Pricing 1: 1=0.38, 10=0.282, 50=0.1646, 100=0.1316, 250=0.094, 500=0.06392, 1000=0.0517, 5000=0.04042 (USD); Current Rating: 2.5A; Package / Case: 0603 (1608 Metric); Mounting Type: Surface Mount; Packaging: Cut Tape (CT); Height (Max): 0.037" (0.95mm); Size / Dimension: 0.063" L x 0.031" W (1.60mm x 0.80mm); ComponentLink1URL: http://search.murata.co.jp/Ceramy/image/img/PDF/ENG/L0110S0100BLM18S.pdf; ComponentLink1Description: http://search.murata.co.jp/Ceramy/image/img/PDF/ENG/L0110S0100BLM18S.pdf; .Checked SCH: CHK
footprint C0603
pins: 1, 2

## BUZZER 2.73KHZ 9MM 3V 70dB@1M EXT.DRV.
designator LS?, comment GT-0903A
AUDIO MAGNETIC XDCR 2-4V TH; Manufacturer 1: Soberton Inc.; PackageDocument: 1995/1996; .Checked PCB: CHK; Driver Circuitry: Transducer, Externally Driven; Input Type: Zero-Peak Signal; Voltage Range: 2 ~ 4V; Frequency: 2.73kHz; Operating Mode: Single Tone; Sound Pressure Level (SPL): 85dB @ 3V, 10cm; Current - Supply: 80mA; Port Location: Top; Published: 8-Jun-2000; LatestRevisionDate: 17-Jul-2002; LatestRevisionNote: Re-released for DXP Platform.; PackageReference: E3; Publisher: Altium Limited; Digikey P/N: 433-1032-ND; .Checked SCH: CHK; Supplier 1: Digi-Key; Supplier Part Number 1: 433-1032-ND; Manufacturer Part Number 1: GT-0903A; RoHS: RoHS Compliant; Description 1: AUDIO MAGNETIC XDCR 2-4V TH; Category: Audio Products; Stock 1: 14073; Pricing 1: 1=0.97, 10=0.774, 25=0.7036, 50=0.658, 100=0.6125, 250=0.56, 500=0.5215, 1000=0.4865, 5000=0.4375 (USD); Packaging: Tray; Part Status: Active; Technology: Magnetic; Duration: -; Operating Temperature: -20°C ~ 60°C; Approvals: -; Ratings: -; Mounting Type: Through Hole; Termination: PC Pins; Size / Dimension: 0.354" Dia (9.00mm); Height - Seated (Max): 0.197" (5.00mm); ComponentLink1URL: http://cirlw3yrzg4afc1x47lv2k18.wpengine.netdna-cdn.com/wp-content/uploads/2016/10/GT-0903A-Rev.A_2016-1.pdf; ComponentLink1Description: http://cirlw3yrzg4afc1x47lv2k18.wpengine.netdna-cdn.com/wp-content/uploads/2016/10/GT-0903A-Rev.A_2016-1.pdf
footprint GT-0903A
pins: 1 V+, 2 V-

## C1005X5R1H104K
designator C?, comment 100n
CAP CER .10UF 50V X5R 10% 0402; Manufacturer: TDK Corporation; Manufacturer Part Number: C1005X5R1H104K; Capacitance: 0.1µF; Value: 100nF; .Checked PCB: CHK; Category: Capacitors; Supplier Part Number: 445-5942-1-ND; Operating Temperature: -55°C ~ 85°C; Package / Case: 0402 (1005 Metric); Price 1k [$]: 0.02340; .Checked SCH: CHK; Voltage - Rated: 50V; Supplier: Digikey; Supplier 1: Digi-Key; Supplier Part Number 1: 445-5942-1-ND; RoHS: RoHS Compliant; Stock 1: 106926; Pricing 1: 1=0.27, 10=0.18, 100=0.072, 250=0.05176, 500=0.0369, 1000=0.027 (USD); Tolerance: ±10%; Temperature Coefficient: X5R; Mounting Type: Surface Mount, MLCC; Applications: General Purpose; Ratings: -; Size / Dimension: 0.039" L x 0.020" W (1.00mm x 0.50mm); Height - Seated (Max): -; Thickness (Max): 0.022" (0.55mm); Lead Spacing: -; Features: -; Packaging: Cut Tape (CT); Lead Style: -; ComponentLink1URL: http://www.tdk.co.jp/tefe02/e412_c.pdf; ComponentLink1Description: http://www.tdk.co.jp/tefe02/e412_c.pdf
footprint C0402
pins: 1, 2

## C1005X7R1C103K
designator C?, comment 10n
CAP CER 10000PF 16V X7R 10% 0402; Manufacturer: TDK Corporation; Manufacturer Part Number: C1005X7R1C103K; Value: 10nF; .Checked PCB: CHK; Capacitance: 10000pF; Category: Capacitors; Operating Temperature: -55°C ~ 125°C; Package / Case: 0402 (1005 Metric); Price 1k [$]: 0.00416; .Checked SCH: CHK; Voltage - Rated: 16V; Supplier Part Number: 445-1262-1-ND; Supplier: Digikey; Supplier 1: Digi-Key; Supplier Part Number 1: 445-1262-1-ND; RoHS: RoHS Compliant; Stock 1: 511497; Pricing 1: 1=0.08, 10=0.05, 100=0.018, 250=0.013, 500=0.0096, 1000=0.0065 (USD); Tolerance: ±10%; Temperature Coefficient: X7R; Mounting Type: Surface Mount, MLCC; Applications: General Purpose; Ratings: -; Size / Dimension: 0.039" L x 0.020" W (1.00mm x 0.50mm); Height - Seated (Max): -; Thickness (Max): 0.022" (0.55mm); Lead Spacing: -; Features: -; Packaging: Cut Tape (CT); Lead Style: -; ComponentLink1URL: http://www.tdk.co.jp/tefe02/e412_c.pdf; ComponentLink1Description: http://www.tdk.co.jp/tefe02/e412_c.pdf
pins: 1, 2

## C1206X102KGRACTU
designator C?, comment 1000pF, 2kV
CAP CER 1000PF 2000V X7R 1206 FT; Manufacturer: Kemet; Manufacturer Part Number: C1206X102KGRACTU; .Checked PCB: CHK; Voltage - Rated: 2000V (2kV); Tolerance: ±10%; Capacitance: 1000pF; Category: Capacitors; Supplier Part Number: 399-5830-1-ND; Operating Temperature: -55°C ~ 125°C; Package / Case: 1206 (3216 Metric); Price 1k [$]: 0.27600; Value: 1000pF, 2kV; .Checked SCH: CHK; Supplier: Digikey; Supplier 1: Digi-Key; Supplier Part Number 1: 399-5830-1-ND; RoHS: RoHS Compliant; Stock 1: 2068; Pricing 1: 1=0.92, 10=0.771, 25=0.6324, 100=0.483, 250=0.37952, 500=0.345, 1000=0.276 (USD); Temperature Coefficient: X7R; Mounting Type: Surface Mount, MLCC; Applications: Boardflex Sensitive; Ratings: -; Size / Dimension: 0.134" L x 0.063" W (3.40mm x 1.60mm); Height - Seated (Max): -; Thickness (Max): 0.069" (1.75mm); Lead Spacing: -; Features: Soft Termination, High Voltage; Packaging: Cut Tape (CT); Lead Style: -; ComponentLink1URL: http://www.kemet.com/kemet/web/homepage/kechome.nsf/weben/8311688D32A99EF8852578B500644843/$file/KEM_CC105_HIVOLT.pdf; ComponentLink1Description: http://www.kemet.com/kemet/web/homepage/kechome.nsf/weben/8311688D32A99EF8852578B500644843/$file/KEM_CC105_HIVOLT.pdf
footprint C1206
pins: 1, 2

## C1608X5R0J106M
designator C?, comment 10u
CAP CER 10UF 6.3V X5R 20% 0603; Manufacturer: TDK Corporation; Manufacturer Part Number: C1608X5R0J106M; Capacitance: 10µF; Value: 10µF; .Checked PCB: CHK; Category: Capacitors; Operating Temperature: -55°C ~ 85°C; Package / Case: 0603 (1608 Metric); Price 1k [$]: 0.08580; .Checked SCH: CHK; Voltage - Rated: 6.3V; Features: Low ESR; Supplier Part Number: 445-4112-1-ND; Supplier: Digikey; Supplier 1: Digi-Key; Supplier Part Number 1: 445-4112-1-ND; RoHS: RoHS Compliant; Stock 1: 48157; Pricing 1: 1=0.46, 10=0.363, 100=0.1898, 250=0.14024, 500=0.1089, 1000=0.0858 (USD); Tolerance: ±20%; Temperature Coefficient: X5R; Mounting Type: Surface Mount, MLCC; Applications: General Purpose; Ratings: -; Size / Dimension: 0.063" L x 0.031" W (1.60mm x 0.80mm); Height - Seated (Max): -; Thickness (Max): 0.037" (0.95mm); Lead Spacing: -; Packaging: Cut Tape (CT); Lead Style: -; ComponentLink1URL: http://www.tdk.com/pdf/general_B11.pdf; ComponentLink1Description: http://www.tdk.com/pdf/general_B11.pdf
footprint C0603
pins: 1, 2

## C1608X8R1H104K08
designator C?, comment 100nF
CAP CER 0.1UF 50V X8R 0603; Manufacturer_Part_Number: C1608X8R1H104K080AB; Manufacturer 1: TDK Corporation; Vendor: TDK; Built_By: EMA_UL_Team; Type: DEV; C: Copyright (C) 2015 Accelerated Designs. All rights reserved; Tolerance: ±10%; Notification: Current market demand for these product types have resulted in fluctuating and extending lead times. Lead times may differ.; .Checked PCB: CHK; RefDes: RefDes; Value: Value; Manufacturer Part Number 1: C1608X8R1H104K080AB; RoHS: RoHS Compliant; Stock 1: 5228; Pricing 1: 1=0.32, 10=0.216, 100=0.1093, 500=0.07476, 1000=0.06613 (USD); Packaging: Cut Tape (CT); Part Status: Active; Voltage - Rated: 50V; Temperature Coefficient: X8R; Operating Temperature: -55°C ~ 150°C; Features: High Temperature; Ratings: -; Applications: General Purpose; Failure Rate: -; Mounting Type: Surface Mount, MLCC; Package / Case: 0603 (1608 Metric); Size / Dimension: 0.063" L x 0.032" W (1.60mm x 0.80mm); Height - Seated (Max): -; Thickness (Max): 0.035" (0.90mm); Lead Spacing: -; Lead Style: -; Supplier 1: Digi-Key; Supplier Part Number 1: 445-8818-1-ND; Description 1: CAP CER 0.1UF 50V X8R 0603; Category: Capacitors; .Checked SCH: CHK
footprint CAP_1608
footprint CAP_1608-L
footprint CAP_1608
pins: 1, 2

## C2012X5R1C226K
designator C?, comment 22u
CAP CER 22UF 16V 10% X5R 0805; Manufacturer: TDK Corporation; Manufacturer Part Number: C2012X5R1C226K; Capacitance: 22µF; .Checked PCB: CHK; Supplier 1: Digi-Key; Supplier Part Number 1: 445-6797-1-ND; RoHS: RoHS Compliant; Category: Capacitors; Stock 1: 15408; Pricing 1: 1=0.77, 10=0.737, 100=0.3575, 250=0.297, 500=0.2695, 1000=0.2475 (USD); Voltage - Rated: 16V; Tolerance: ±10%; Temperature Coefficient: X5R; Mounting Type: Surface Mount, MLCC; Operating Temperature: -55°C ~ 85°C; Applications: General Purpose; Ratings: -; Package / Case: 0805 (2012 Metric); Size / Dimension: 0.079" L x 0.049" W (2.00mm x 1.25mm); Height - Seated (Max): -; Thickness (Max): 0.057" (1.45mm); Lead Spacing: -; Features: -; Packaging: Cut Tape (CT); Lead Style: -; ComponentLink1URL: http://www.tdk.com/pdf/general_B11.pdf; ComponentLink1Description: http://www.tdk.com/pdf/general_B11.pdf; .Checked SCH: CHK
footprint CAP_2012
footprint CAP_2012-L
footprint CAP_2012-M
pins: 1, 2

## C3216X5R1A107M
designator C?, comment 100µF
CAP CER 100UF 10V X5R 20% 1206; Manufacturer: TDK Corporation; Manufacturer Part Number: C3216X5R1A107M; .Checked PCB: CHK; Capacitance: 100µF; Category: Capacitors; Operating Temperature: -55°C ~ 85°C; Package / Case: 1206 (3216 Metric); Price 1k [$]: 0.85800; Value: 100µF; .Checked SCH: CHK; Voltage - Rated: 10V; Supplier Part Number: 445-6007-1-ND; Supplier: Digikey; Supplier 1: Digi-Key; Supplier Part Number 1: 445-6007-1-ND; RoHS: RoHS Compliant; Stock 1: 28026; Pricing 1: 1=1.65, 10=1.353, 100=1.089, 250=0.957, 500=0.891, 1000=0.693 (USD); Tolerance: ±20%; Temperature Coefficient: X5R; Mounting Type: Surface Mount, MLCC; Applications: General Purpose; Ratings: -; Size / Dimension: 0.126" L x 0.063" W (3.20mm x 1.60mm); Height - Seated (Max): -; Thickness (Max): 0.071" (1.80mm); Lead Spacing: -; Features: -; Packaging: Cut Tape (CT); Lead Style: -; ComponentLink1URL: http://www.tdk.com/pdf/general_B11.pdf; ComponentLink1Description: http://www.tdk.com/pdf/general_B11.pdf
footprint C1206
pins: 1, 2

## CDSOT23
designator D?
TVS DIODE 24V 40V SOT23; Manufacturer 1: Bourns Inc.; Manufacturer Part Number 1: CDSOT23-T24CAN; Type: Zener; Voltage - Breakdown (Min): 26.2V; Current - Peak Pulse (10/1000µs): 8A (8/20µs); Power Line Protection: No; Capacitance @ Frequency: 22pF @ 1MHz; .Checked PCB: CHK; RoHS: RoHS Compliant; Stock 1: 26793; Pricing 1: 1=0.57, 10=0.399, 25=0.3272, 100=0.2617, 250=0.19036, 500=0.15466, 1000=0.11897 (USD); Packaging: Cut Tape (CT); Part Status: Active; Voltage - Reverse Standoff (Typ): 24V; Voltage - Clamping (Max) @ Ipp: 40V; Power - Peak Pulse: -; Applications: CAN; Operating Temperature: -40°C ~ 150°C (TJ); Mounting Type: Surface Mount; Package / Case: TO-236-3, SC-59, SOT-23-3; Supplier Device Package: SOT-23; ComponentLink1URL: https://www.bourns.com/docs/Product-Datasheets/CDSOT23-T24CAN.pdf; ComponentLink1Description: https://www.bourns.com/docs/Product-Datasheets/CDSOT23-T24CAN.pdf; Supplier 1: Digi-Key; Supplier Part Number 1: CDSOT23-T24CANCT-ND; Description 1: TVS DIODE 24V 40V SOT23; Category: Circuit Protection; .Checked SCH: CHK
footprint 3312-2
pins: 1, 2, 3

## CGB2A1JB1C105K03
designator C?, comment 1uF
CAP CER 1UF 16V JB 0402; Manufacturer_Part_Number: CGB2A1JB1C105K033BC; Manufacturer 1: TDK Corporation; Vendor: TDK; Built_By: EMA_UL_Team; Type: DEV; C: Copyright (C) 2015 Accelerated Designs. All rights reserved; Tolerance: ±10%; Notification: Current market demand for these product types have resulted in fluctuating and extending lead times. Lead times may differ.; .Checked PCB: CHK; RefDes: RefDes; Value: Value; Manufacturer Part Number 1: CGB2A1JB1C105K033BC; RoHS: RoHS Compliant; Stock 1: 8974; Pricing 1: 1=0.22, 10=0.151, 100=0.0765, 500=0.05232, 1000=0.04629, 2500=0.04428, 5000=0.04025 (USD); Packaging: Cut Tape (CT); Part Status: Active; Voltage - Rated: 16V; Temperature Coefficient: JB; Operating Temperature: -25°C ~ 85°C; Features: Low Profile; Ratings: -; Applications: General Purpose; Failure Rate: -; Mounting Type: Surface Mount, MLCC; Package / Case: 0402 (1005 Metric); Size / Dimension: 0.039" L x 0.020" W (1.00mm x 0.50mm); Height - Seated (Max): -; Thickness (Max): 0.013" (0.33mm); Lead Spacing: -; Lead Style: -; ComponentLink1URL: https://product.tdk.com/info/en/catalog/datasheets/mlcc_commercial_lowprofile_en.pdf; ComponentLink1Description: https://product.tdk.com/info/en/catalog/datasheets/mlcc_commercial_lowprofile_en.pdf; Supplier 1: Digi-Key; Supplier Part Number 1: 445-12011-1-ND; Description 1: CAP CER 1UF 16V JB 0402; Category: Capacitors; .Checked SCH: CHK
footprint C0402
footprint C0402
pins: 1, 2

## COMe-mBT10
designator m?
footprint COMe-mBT10 (Computer on Module Type 10 3D Model)
text: COMe-mBT10 3D model

## CRCW0402100KFKED
designator R?, comment 100K
RES SMD 100K OHM 1% 1/5W 0402; Manufacturer_Part_Number: CRCW0402100KFKEDHP; Manufacturer 1: Vishay Dale; Vendor: Vishay; Built_By: EMA_UL_Team; C: Copyright (C) 2015 Accelerated Designs. All rights reserved; Power (Watts): 0.2W, 1/5W; Temperature Coefficient: ±100ppm/°C; .Checked PCB: CHK; RefDes: RefDes; Type: DEV; Value: 100K; Manufacturer Part Number 1: CRCW0402100KFKEDHP; RoHS: RoHS Compliant; Stock 1: 26795; Pricing 1: 1=0.15, 10=0.138, 100=0.0532, 1000=0.02343, 2500=0.02023, 5000=0.0181 (USD); Packaging: Cut Tape (CT); Part Status: Active; Tolerance: ±1%; Composition: Thick Film; Features: Automotive AEC-Q200, Pulse Withstanding; Operating Temperature: -55°C ~ 155°C; Package / Case: 0402 (1005 Metric); Supplier Device Package: 0402; Size / Dimension: 0.039" L x 0.020" W (1.00mm x 0.50mm); Height - Seated (Max): 0.016" (0.40mm); Failure Rate: -; ComponentLink1URL: http://www.vishay.com/docs/20043/crcwhpe3.pdf; ComponentLink1Description: http://www.vishay.com/docs/20043/crcwhpe3.pdf; Supplier 1: Digi-Key; Supplier Part Number 1: 541-100KYCT-ND; Description 1: RES SMD 100K OHM 1% 1/5W 0402; Category: Resistors; .Checked SCH: CHK
footprint RES_CRCW_0402
footprint RES_CRCW_0402-L
footprint RES_CRCW_0402-M
pins: 1, 2

## CRE1S0505SC
designator U?
DC/DC TH 1W 5-5V SIP SINGLE; Manufacturer 1: Murata Power Solutions Inc.; Voltage - Input (Min): 4.5V; Voltage - Input (Max): 5.5V; Voltage - Output 1: 5V; Current - Output (Max): 200mA; Efficiency: 70%; .Checked SCH: CHK; Manufacturer Part Number 1: CRE1S0505SC; RoHS: RoHS Compliant; Stock 1: 676; Pricing 1: 1=2.69, 5=2.68, 10=2.66, 25=2.63, 50=2.56, 100=2.43, 250=2.28, 500=2.13002, 1000=2.1147 (USD); Packaging: Tube; Part Status: Active; Type: Isolated Module; Voltage - Output 2: -; Voltage - Output 3: -; Applications: ITE (Commercial); Features: -; Operating Temperature: -40°C ~ 85°C; Mounting Type: Through Hole; Package / Case: 4-SIP Module; Size / Dimension: 0.45" L x 0.24" W x 0.30" H (11.5mm x 6.1mm x 7.5mm); Supplier Device Package: -; ComponentLink1URL: https://power.murata.com/data/power/ncl/kdc_cre1.pdf; ComponentLink1Description: https://power.murata.com/data/power/ncl/kdc_cre1.pdf; Supplier 1: Digi-Key; Supplier Part Number 1: 811-3196-ND; Description 1: DC/DC TH 1W 5-5V SIP SINGLE; Category: Power Supplies - Board Mount; .Checked PCB: CHK
footprint CRE1S0505SC
pins: 1 -Vin, 2 +Vin, 3 -Vout, 4 +Vout

## CRG0805F4K7
designator R?, comment 4K7
Imported; Manufacturer_Part_Number: CRG0805F4K7; Manufacturer 1: TE Connectivity Passive Product; Vendor: TE Connectivity; Built_By: EMA_UL_Team; C: Copyright (C) 2015 Accelerated Designs. All rights reserved; Tolerance: ±1%; Power (Watts): 0.125W, 1/8W; Temperature Coefficient: ±100ppm/°C; Description 1: RES SMD 4.7K OHM 1% 1/8W 0805; .Checked PCB: CHK; RefDes: RefDes; Type: DEV; Value: 4k7; Manufacturer Part Number 1: CRG0805F4K7; RoHS: RoHS Compliant; Stock 1: 28633; Pricing 1: 1=0.1, 10=0.035, 100=0.0143, 1000=0.00641, 2500=0.00557 (USD); Packaging: Cut Tape (CT); Part Status: Active; Composition: Thick Film; Features: -; Operating Temperature: -55°C ~ 125°C; Package / Case: 0805 (2012 Metric); Supplier Device Package: 0805; Size / Dimension: 0.079" L x 0.049" W (2.00mm x 1.25mm); Height - Seated (Max): 0.026" (0.65mm); Failure Rate: -; ComponentLink1URL: http://www.te.com/commerce/DocumentDelivery/DDEController?Action=srchrtrv&DocNm=1773204&DocType=DS&DocLang=English; ComponentLink1Description: http://www.te.com/commerce/DocumentDelivery/DDEController?Action=srchrtrv&DocNm=1773204&DocType=DS&DocLang=English; Supplier 1: Digi-Key; Supplier Part Number 1: A106065CT-ND; Category: Resistors; .Checked SCH: CHK
footprint RES0805_CRG_TYCO
pins: 1, 2

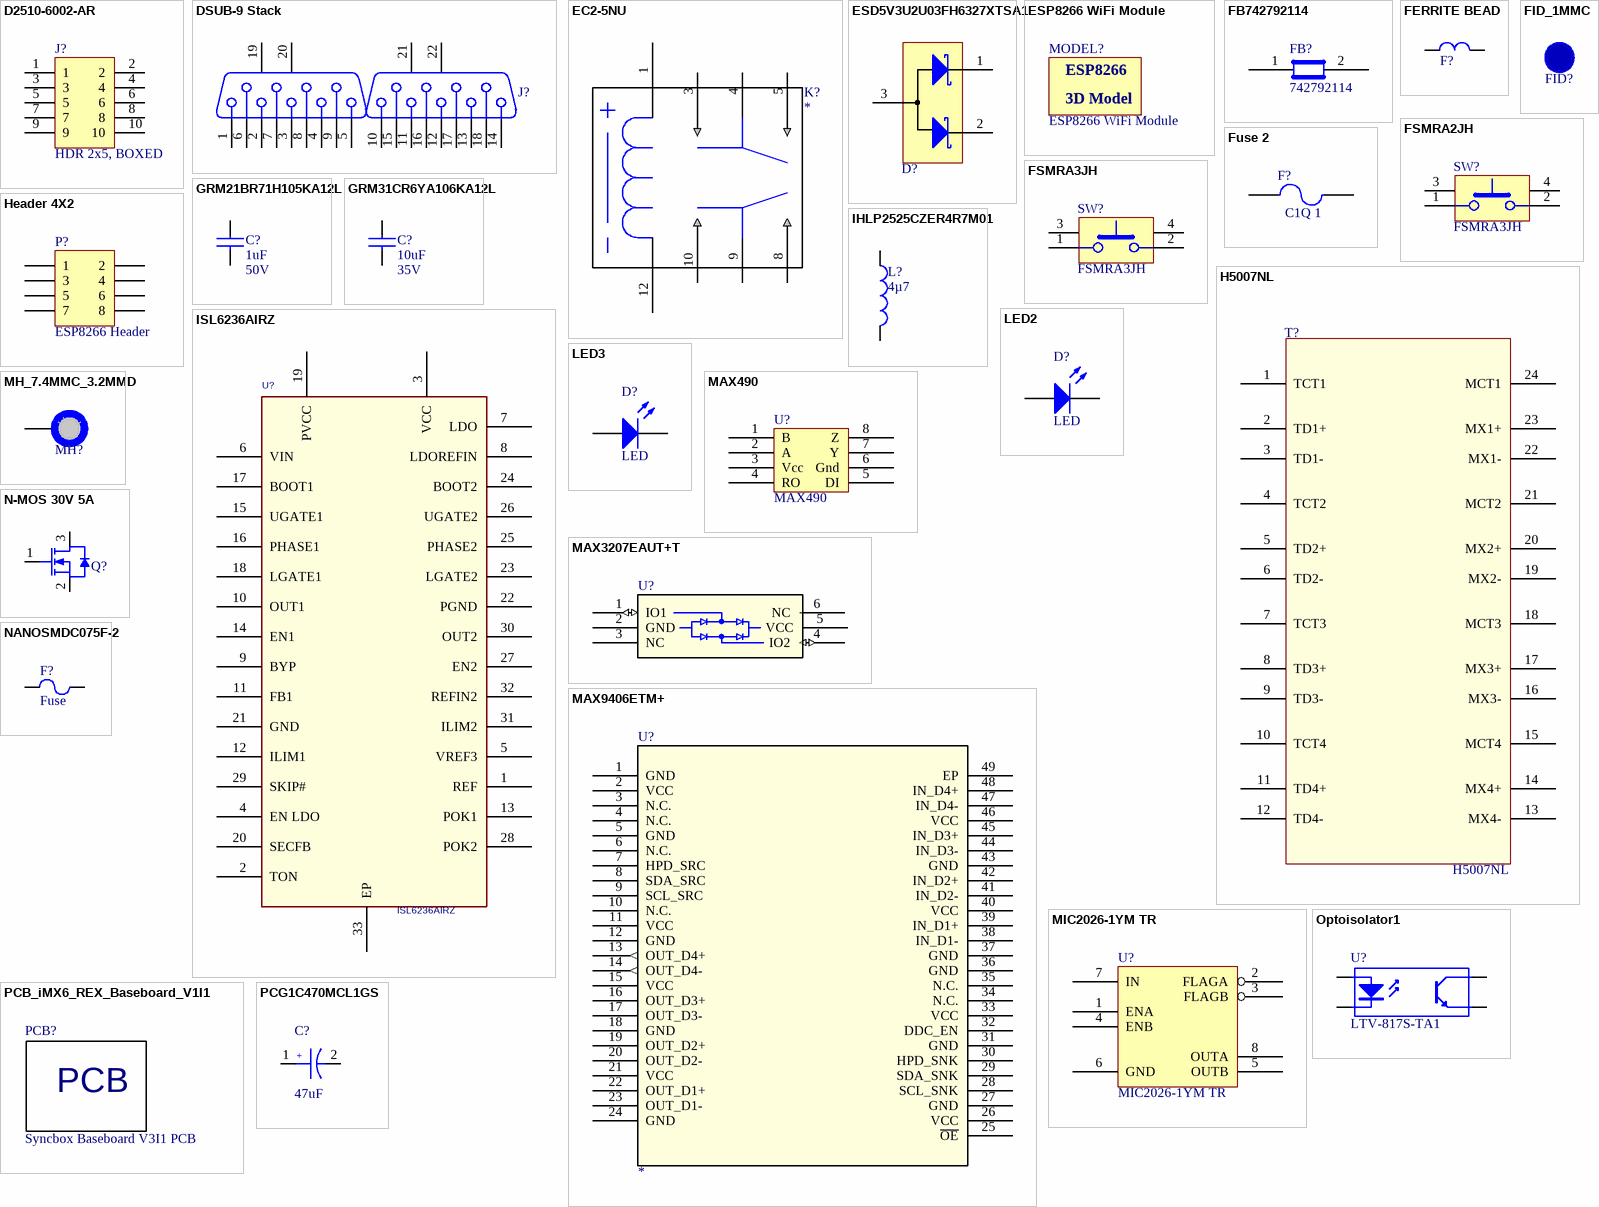
[diagram p1: symbols D2510-6002-AR to PCG1C470MCL1GS]

## D2510-6002-AR
designator J?, comment HDR 2x5, BOXED
CONN HEADER 10POS VERT 10GOLD; Manufacturer: 3M; Manufacturer Part Number: D2510-6002-AR; Connector Type: Header, Shrouded; Number of Positions: 10; Number of Positions Loaded: All; Pitch: 0.100" (2.54mm); .Creator: MM; .Checked PCB: CHK; Supplier 1: Digi-Key; RoHS: RoHS Compliant; Category: Connectors, Interconnects; Stock 1: 1080; Pricing 1: 1=1.57, 10=1.421, 50=1.276, 100=1.218, 250=1.102, 500=1.015, 1000=0.87, 2500=0.812, 5000=0.7714 (USD); Packaging: Bulk; Contact Type: Male Pin; Number of Rows: 2; Row Spacing: 0.100" (2.54mm); Contact Mating Length: 0.243" (6.17mm); Mounting Type: Through Hole; Termination: Solder; Fastening Type: -; Features: -; Contact Finish: Gold; Contact Finish Thickness: 10µin (0.25µm); Color: Black; ComponentLink1URL: http://multimedia.3m.com/mws/mediawebserver?66666UuZjcFSLXTtm8T_oxMcEVuQEcuZgVs6EVs6E666666--; ComponentLink1Description: http://multimedia.3m.com/mws/mediawebserver?66666UuZjcFSLXTtm8T_oxMcEVuQEcuZgVs6EVs6E666666--; Supplier Part Number 1: MHC10E-ND; .Checked SCH: CHK
footprint HDR_2x5_2.54mm_BOXED
pins: 1, 2, 3, 4, 5, 6, 7, 8, 9 (power), 10 (power)

## DSUB-9 Stack
designator J?, comment DSUB-9 Stacked  (value not drawn)
189-009-613R491; Manufacturer 1: NorComp Inc.; PackageDocument: O; Positions: 9; Gender: Receptacle; Connector Style: D-Sub - Stacked; Connector Type: Plug, Male Pins; Number of Positions: 9, 9; Flange Feature: Housing/Shell (4-40); Material Flammability Rating: UL94 V-0; Current Rating: 5A; Contact Form: Stamped; Backset Spacing: 0.318" (8.08mm); Description 1: CONN D-SUB PLUG 9POS R/A SLDR; .Checked PCB: CHK; Published: 15-Jun-2001; LatestRevisionDate: 17-Jul-2002; LatestRevisionNote: Re-released for DXP Platform.; DatasheetDocument: 1-Sep-1999; PackageReference: 788750; Publisher: Altium Limited; Orientation: Right Angle; Manufacturer Part Number 1: 189-009-613R491; RoHS: RoHS Compliant; Stock 1: 1768; Pricing 1: 1=6.96, 10=6.67, 25=6.09, 50=5.8, 100=5.51, 250=4.93, 500=4.64, 1000=4.06, 2500=3.857 (USD); Packaging: Tray; Part Status: Active; Number of Rows: 2, 2; Shell Size, Connector Layout: 1 (DE, E); 1 (DE, E); Contact Type: Signal; Mounting Type: Panel Mount, Through Hole, Right Angle; Termination: Solder; Features: Board Lock, Grounding Indents, Shielded; Shell Material, Finish: Steel, Nickel Plated; Contact Finish: Gold; Contact Finish Thickness: Flash; Ingress Protection: -; Operating Temperature: -55°C ~ 105°C; Voltage Rating: -; Color: Black; Housing Material: Polyamide (PA9T), Nylon 9T; Wire Gauge: -; Contact Material: Brass; ComponentLink1URL: https://www.norcomp.net/rohspdfs/Connectors/18Y/189/613/189-YYY-613R491.pdf; ComponentLink1Description: https://www.norcomp.net/rohspdfs/Connectors/18Y/189/613/189-YYY-613R491.pdf; Supplier 1: Digi-Key; Supplier Part Number 1: 189-409MME-ND; Category: Connectors, Interconnects; .Checked SCH: CHK
footprint DSUB9-Double (Double Stacked D-Sub Connector 2x9)
pins: 1, 2, 3, 4, 5, 6, 7, 8, 9, 10, 11, 12, 13, 14, 15, 16, 17, 18, 19, 20, 21, 22

## EC2-5NU
designator K?
Relay; Manufacturer_Part_Number: EC2-5NU; Vendor: KEMET; Built_By: EMA_UL_Team; C: Copyright (C) 2015 Accelerated Designs. All rights reserved; Relay Type: General Purpose; Coil Type: Non Latching; Coil Voltage: 5VDC; Contact Form: DPDT (2 Form C); Switching Voltage: 250VAC, 220VDC - Max; Turn On Voltage (Max): 3.75 VDC; Turn Off Voltage (Min): 0.5 VDC; Coil Power: 140 mW; Description 1: RELAY GEN PURPOSE DPDT 2A 5V; .Checked PCB: CHK; RefDes: RefDes; Type: DEV; Value: Value; Manufacturer 1: KEMET; Manufacturer Part Number 1: EC2-5NU; RoHS: RoHS Compliant; Stock 1: 14823; Pricing 1: 1=1.63, 10=1.53, 25=1.36, 50=1.292, 100=1.224, 250=1.088, 500=1.02, 1000=0.952, 5000=0.918 (USD); Packaging: Tube; Part Status: Active; Features: -; Mounting Type: Through Hole; Termination Style: PC Pin; Operating Temperature: -40°C ~ 85°C; Contact Material: Silver Alloy, Gold Alloy; ComponentLink1URL: https://api.kemet.com/component-edge/download/datasheet/EC2-5NU.pdf; ComponentLink1Description: https://api.kemet.com/component-edge/download/datasheet/EC2-5NU.pdf; Supplier 1: Digi-Key; Supplier Part Number 1: 399-11052-5-ND; Category: Relays; .Checked SCH: CHK
footprint EC2NU
pins: 1, 3, 4, 5, 8, 9, 10, 12